# Altium schematic symbol library CONN2x8_050_LOCK.Schlib: 1 symbol
Pins are listed as number, name and electrical type; pins without a type are passive.

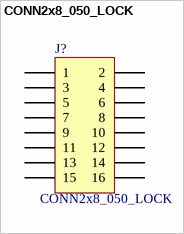
[diagram p0: symbol CONN2x8_050_LOCK]

## CONN2x8_050_LOCK
designator J?
Connector, 8-Pin, Dual row; 4 Manufacturer: Samtec; 5 Manufacturer P/N: EHF-108-01-F-D-SM; 1 Type: Header, 2x8; 2 Description: 16-pos, 2x8, 0.050", locking, SMT; 6 P/N: 222-1383; ComponentLink2Description: Datasheet; ComponentLink1URL: http://www.samtec.com/; ComponentLink1Description: Manufacturer Link; ComponentLink2URL: http://www.samtec.com/technical_specifications/prints.asp?series=EHF&menu=STANDARD_PRODUCTS; ComponentLink3Description: Supplier Link; 3 Footprint: CONN2x8_050_LOCK
signal-integrity model Connector
footprint CONN2x8_050_LOCK
pins: 1, 2, 3, 4, 5, 6, 7, 8, 9, 10, 11, 12, 13, 14, 15, 16